# Altium schematic symbol library RLC Symbols.SchLib: 159 symbols (part 2 of 2)
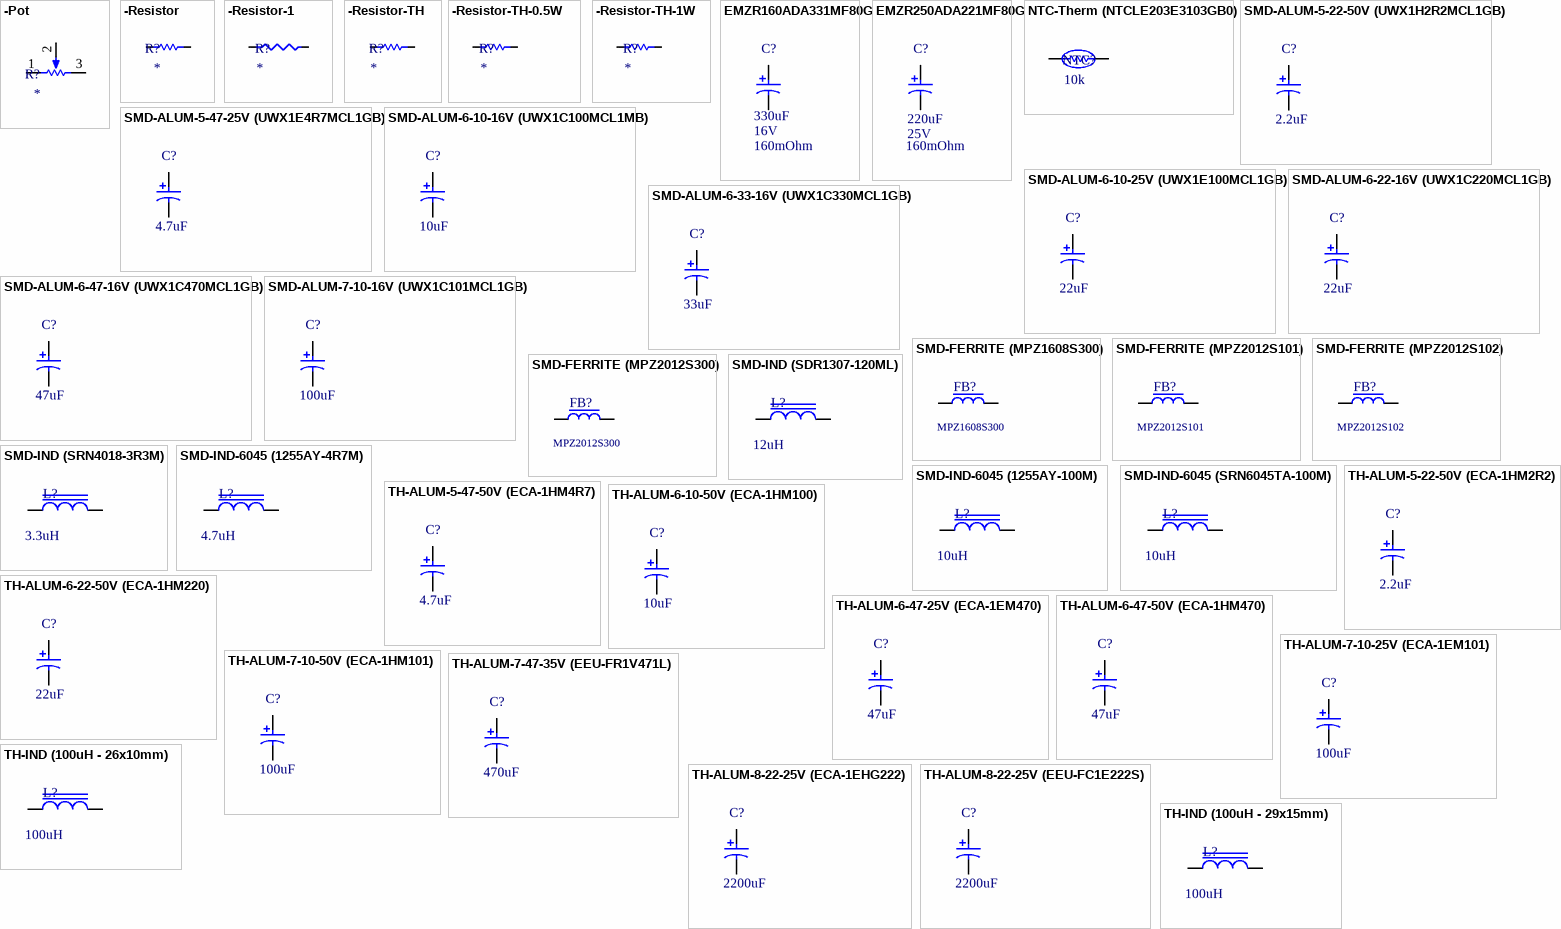
[diagram p4: symbols -Pot to TH-IND (100uH - 29x15mm)]

## SMD-ALUM-5-47-25V (UWX1E4R7MCL1GB)
designator C?, comment value 4.7uF  (hidden comment: Cap Aluminum)
CAP, ALUM, SMD, 4mm, 4.7uF, 25V, 20%; ReferencePart: UWX1E4R7MCL1GB; Voltage: 25V; ESR: *; Supplier 1: Mouser; Supplier Part Number 1: 647-UWX1E4R7MCL1
footprint SMD CAP-4X5.8MM-A1K2 (Aluminum Electrolytic Capacitor, Diameter 4mm, Height 6.1mm, Pitch 3.6mm)
pins: 1 A, 2 K

## SMD-ALUM-6-10-16V (UWX1C100MCL1MB)
designator C?, comment value 10uF  (hidden comment: Cap Aluminum)
CAP, ALUM, SMD, 4mm, 10uF, 16V, 20%; ReferencePart: UWX1C100MCL1MB; Voltage: 16V; ESR: *; Supplier 1: Mouser; Supplier Part Number 1: 647-UWX1C100MCL1MB
footprint SMD CAP-4X5.8MM-A1K2 (Aluminum Electrolytic Capacitor, Diameter 4mm, Height 6.1mm, Pitch 3.6mm)
pins: 1 A, 2 K

## SMD-ALUM-6-10-25V (UWX1E100MCL1GB)
designator C?, comment value 22uF  (hidden comment: Cap Aluminum)
CAP, ALUM, SMD, 5mm, 10uF, 25V, 20%; ReferencePart: UWX1E100MCL1GB; Voltage: 25V; ESR: *; Supplier 1: Mouser; Supplier Part Number 1: 647-UWX1E100MCL1
footprint SMD CAP-5X5.8MM-A1K2 (Aluminum Electrolytic Capacitor, Diameter 5mm, Height 6.1mm, Pitch 4.4mm)
pins: 1 A, 2 K

## SMD-ALUM-6-22-16V (UWX1C220MCL1GB)
designator C?, comment value 22uF  (hidden comment: Cap Aluminum)
CAP, ALUM, SMD, 5mm, 22uF, 16V, 20%; ReferencePart: UWX1C220MCL1GB; Voltage: 16V; ESR: *; Supplier 1: Mouser; Supplier Part Number 1: 647-UWX1C220MCL1
footprint SMD CAP-5X5.8MM-A1K2 (Aluminum Electrolytic Capacitor, Diameter 5mm, Height 6.1mm, Pitch 4.4mm)
pins: 1 A, 2 K

## SMD-ALUM-6-33-16V (UWX1C330MCL1GB)
designator C?, comment value 33uF  (hidden comment: Cap Aluminum)
CAP, ALUM, SMD, 6.3mm, 33uF, 16V, 20%; ReferencePart: UWX1C330MCL1GB; Voltage: 16V; ESR: *; Supplier 1: Mouser; Supplier Part Number 1: 647-UWX1C330MCL1
footprint SMD CAP-6.3X7.7MM-A1K2 (Aluminum Electrolytic Capacitor, Diameter 6.3mm, Height 8mm, Pitch 5.4mm)
pins: 1 A, 2 K

## SMD-ALUM-6-47-16V (UWX1C470MCL1GB)
designator C?, comment value 47uF  (hidden comment: Cap Aluminum)
CAP, ALUM, SMD, 6.3mm, 47uF, 16V, 20%; ReferencePart: UWX1C470MCL1GB; Voltage: 16V; ESR: *; Supplier 1: Mouser; Supplier Part Number 1: 647-UWX1C470MCL1
footprint SMD CAP-6.3X7.7MM-A1K2 (Aluminum Electrolytic Capacitor, Diameter 6.3mm, Height 8mm, Pitch 5.4mm)
pins: 1 A, 2 K

## SMD-ALUM-7-10-16V (UWX1C101MCL1GB)
designator C?, comment value 100uF  (hidden comment: Cap Aluminum)
CAP, ALUM, SMD, 6.3mm, 100uF, 16V, 20%; ReferencePart: UWX1C101MCL1GB; Voltage: 16V; ESR: *; Supplier 1: Mouser; Supplier Part Number 1: 647-UWX1C101MCL1
footprint SMD CAP-6.3X7.7MM-A1K2 (Aluminum Electrolytic Capacitor, Diameter 6.3mm, Height 8mm, Pitch 5.4mm)
pins: 1 A, 2 K

## SMD-FERRITE (MPZ1608S300)
designator FB?, comment value MPZ1608S300  (hidden comment: Ferrite Bead)
Ferrite Bead, 0603, 5A, 30 Ohm Impedance; Z 100 MHz: 30; Imax: 5A; Supplier 1: Mouser; Supplier Part Number 1: 810-MPZ1608S300A
footprint CAP 0603_L (Chip Capacitor, Body 1.6x0.8mm, Height 0.55mm, IPC High Density)
footprint CAP 0603_N (Chip Capacitor, Body 1.6x0.8mm, Height 0.55mm, IPC Medium Density)
pins: 1, 2

## SMD-FERRITE (MPZ2012S101)
designator FB?, comment value MPZ2012S101  (hidden comment: Ferrite Bead)
Ferrite Bead, 0805, 4A, 100 Ohm Impedance; Z 100 MHz: 100; Imax: 4A; Supplier 1: Mouser; Supplier Part Number 1: 810-MPZ2012S101A
footprint IND 0805_L (Chip Inductor, Body 2.0x1.2mm, Height 0.75mm, IPC High Density)
footprint IND 0805_N (Chip Inductor, Body 2.0x1.2mm, Height 0.75mm, IPC Medium Density)
pins: 1, 2

## SMD-FERRITE (MPZ2012S102)
designator FB?, comment value MPZ2012S102  (hidden comment: Ferrite Bead)
Ferrite Bead, 0805, 1.5A, 1k Ohm Impedance; Imax: 1.5A; Z 100 MHz: 1k; Supplier 1: Mouser; Supplier Part Number 1: 810-MPZ2012S102ATD25
footprint IND 0805_L (Chip Inductor, Body 2.0x1.2mm, Height 0.75mm, IPC High Density)
footprint IND 0805_N (Chip Inductor, Body 2.0x1.2mm, Height 0.75mm, IPC Medium Density)
pins: 1, 2

## SMD-FERRITE (MPZ2012S300)
designator FB?, comment value MPZ2012S300  (hidden comment: Ferrite Bead)
Ferrite Bead, 0805, 6A, 30 Ohm Impedance; Imax: 5A; Z 100 MHz: 30; Supplier 1: Mouser; Supplier Part Number 1: 810-MPZ1608S300A
footprint CAP 0805_L (Chip Capacitor, Body 2.0x1.2mm, Height 0.75mm, IPC High Density)
footprint CAP 0805_N (Chip Capacitor, Body 2.0x1.2mm, Height 0.75mm, IPC Medium Density)
pins: 1, 2

## SMD-IND (SDR1307-120ML)
designator L?, comment value 12uH  (hidden comment: Inductor)
IND, SMD Power, 13x13x7mm, 12uH, 4.8A, 20%; Isat: 8A; Irms: 4.8A; Supplier 1: Mouser; Supplier Part Number 1: 652-SDR1307-120ML
footprint IND 130130X73N (SMD Wire Wound Inductor, 2-Leads, Body 13.00x13.00mm, IPC Medium Density)
pins: 1, 2

## SMD-IND (SRN4018-3R3M)
designator L?, comment value 3.3uH  (hidden comment: Inductor)
IND, SMD Power, 4018, 3.3uH, 2.2A, 20%; Isat: 2.3A; Irms: 2.2A; Supplier 1: Digi-Key; Supplier Part Number 1: SRN4018-3R3MDKR-ND
footprint IND 4018 (SMD Power Inductor, 2-Leads, Body 4.0x4.0mm)
pins: 1, 2

## SMD-IND-6045 (1255AY-4R7M)
designator L?, comment value 4.7uH  (hidden comment: Inductor)
IND, SMD Power, 6045, 4.7uH, 4.5A, 20%; Isat: 6.0A; Irms: 4.5A; Supplier 1: Mouser; Supplier Part Number 1: 81-1255AY-4R7MP3
footprint IND 6045 (SMD Power Inductor, 2-Leads, Body 6.0x6.0mm)
pins: 1, 2

## SMD-IND-6045 (1255AY-100M)
designator L?, comment value 10uH  (hidden comment: Inductor)
IND, SMD Power, 6045, 10uH, 3.1A, 20%; Isat: 4.1A; Irms: 3.1A; Supplier 1: Mouser; Supplier Part Number 1: 81-1255AY-100MP3
footprint IND 6045 (SMD Power Inductor, 2-Leads, Body 6.0x6.0mm)
pins: 1, 2

## SMD-IND-6045 (SRN6045TA-100M)
designator L?, comment value 10uH  (hidden comment: Inductor)
IND, SMD Power, 6045, 10uH, 3.2A, 20%; Isat: 4.6A; Irms: 3.2A; Supplier 1: Digi-Key; Supplier Part Number 1: SRN6045TA-100MCT-ND
footprint IND 6045 (SMD Power Inductor, 2-Leads, Body 6.0x6.0mm)
pins: 1, 2

## TH-ALUM-5-22-50V (ECA-1HM2R2)
designator C?, comment value 2.2uF  (hidden comment: Cap Aluminum)
CAP, ALUM, TH, 5x11mm, 2.2uF, 50V, 20%, Pitch 2mm; ReferencePart: ECA-1HM2R2; Voltage: 50V; ESR: *
footprint TH CAP-5X11MM-A1K2 (Aluminum Electrolytic Capacitor, Diameter 5mm, Height 11mm, Pitch 2mm)
pins: 1 A, 2 K

## TH-ALUM-5-47-50V (ECA-1HM4R7)
designator C?, comment value 4.7uF  (hidden comment: Cap Aluminum)
CAP, ALUM, TH, 5x11mm, 4.7uF, 50V, 20%, Pitch 2mm; ReferencePart: ECA-1HM4R7; Voltage: 50V; ESR: *
footprint TH CAP-5X11MM-A1K2 (Aluminum Electrolytic Capacitor, Diameter 5mm, Height 11mm, Pitch 2mm)
pins: 1 A, 2 K

## TH-ALUM-6-10-50V (ECA-1HM100)
designator C?, comment value 10uF  (hidden comment: Cap Aluminum)
CAP, ALUM, TH, 5x11mm, 10uF, 50V, 20%,, Pitch 2mm; ReferencePart: ECA-1HM100; Voltage: 50V; ESR: *; Supplier 1: Mouser; Supplier Part Number 1: 667-ECA-1HM100
footprint TH CAP-5X11MM-A1K2 (Aluminum Electrolytic Capacitor, Diameter 5mm, Height 11mm, Pitch 2mm)
pins: 1 A, 2 K

## TH-ALUM-6-22-50V (ECA-1HM220)
designator C?, comment value 22uF  (hidden comment: Cap Aluminum)
CAP, ALUM, TH, 5x11mm, 22uF, 50V, 20%, Pitch 2mm; ReferencePart: ECA-1HM220; Voltage: 50V; ESR: *
footprint TH CAP-5X11MM-A1K2 (Aluminum Electrolytic Capacitor, Diameter 5mm, Height 11mm, Pitch 2mm)
pins: 1 A, 2 K

## TH-ALUM-6-47-25V (ECA-1EM470)
designator C?, comment value 47uF  (hidden comment: Cap Aluminum)
CAP, ALUM, TH, 5x11mm, 47uF, 25V, 20%, , Pitch 2mm; ReferencePart: ECA-1EM470; Voltage: 25V; ESR: *
footprint TH CAP-5X11MM-A1K2 (Aluminum Electrolytic Capacitor, Diameter 5mm, Height 11mm, Pitch 2mm)
pins: 1 A, 2 K

## TH-ALUM-6-47-50V (ECA-1HM470)
designator C?, comment value 47uF  (hidden comment: Cap Aluminum)
CAP, ALUM, TH, 6.3x11mm, 47uF, 50V, 20%, Pitch 2.5mm; ReferencePart: ECA-1HM470; Voltage: 50V; ESR: *
footprint TH CAP-6.3X11MM-A1K2 (Aluminum Electrolytic Capacitor, Diameter 6.3mm, Height 11mm, Pitch 2.5mm)
pins: 1 A, 2 K

## TH-ALUM-7-10-25V (ECA-1EM101)
designator C?, comment value 100uF  (hidden comment: Cap Aluminum)
CAP, ALUM, TH, 6.3x11mm, 100uF, 25V, 20%, Pitch 2.5mm; ReferencePart: ECA-1EM101; Voltage: 25V; ESR: *; Supplier 1: Mouser; Supplier Part Number 1: 667-ECA-1EM101
footprint TH CAP-6.3X11MM-A1K2 (Aluminum Electrolytic Capacitor, Diameter 6.3mm, Height 11mm, Pitch 2.5mm)
pins: 1 A, 2 K

## TH-ALUM-7-10-50V (ECA-1HM101)
designator C?, comment value 100uF  (hidden comment: Cap Aluminum)
CAP, ALUM, TH, 8x11.5mm, 100uF, 50V, 20%, Pitch 3.5mm; ReferencePart: ECA-1HM101; Voltage: 50V; ESR: *; Supplier 1: Mouser; Supplier Part Number 1: 667-ECA-1HM101
footprint TH CAP-8X11.5MM-A1K2 (Aluminum Electrolytic Capacitor, Diameter 8mm, Height 11.5mm, Pitch 3.5mm)
pins: 1 A, 2 K

## TH-ALUM-7-47-35V (EEU-FR1V471L)
designator C?, comment value 470uF  (hidden comment: Cap Aluminum)
CAP, ALUM, TH, 18x20mm, 2200uF, 25V, 20%, Pitch 7.5mm; ReferencePart: EEU-FR1V471L; Voltage: 35V; ESR: *; Supplier 1: Mouser; Supplier Part Number 1: 667-EEU-FR1V471L
footprint TH CAP-8X20MM-A1K2 (Aluminum Electrolytic Capacitor, Diameter 8mm, Height 20mm, Pitch 3.5mm)
pins: 1 A, 2 K

## TH-ALUM-8-22-25V (ECA-1EHG222)
designator C?, comment value 2200uF  (hidden comment: Cap Aluminum)
CAP, ALUM, TH, 12.5x25mm, 2200uF, 25V, 20%, Pitch 5.0mm; ReferencePart: ECA-1EHG222; Voltage: 25V; ESR: *; Supplier 1: Mouser; Supplier Part Number 1: 667-ECA-1EHG222
footprint TH CAP-12.5X25MM-A1K2 (Aluminum Electrolytic Capacitor, Diameter 12.5mm, Height 25mm, Pitch 5.0mm)
pins: 1 A, 2 K

## TH-ALUM-8-22-25V (EEU-FC1E222S)
designator C?, comment value 2200uF  (hidden comment: Cap Aluminum)
CAP, ALUM, TH, 18x20mm, 2200uF, 25V, 20%, Pitch 7.5mm; ReferencePart: EEU-FC1E222S; Voltage: 25V; ESR: *; Supplier 1: Mouser; Supplier Part Number 1: 667-EEU-FC1E222S
footprint TH CAP-18X20MM-A1K2 (Aluminum Electrolytic Capacitor, Diameter 18mm, Height 20mm, Pitch 7.5mm)
pins: 1 A, 2 K

## TH-IND (100uH - 26x10mm)
designator L?, comment value 100uH  (hidden comment: Inductor)
IND, TH, 26x10mm; ReferencePart: ZJ42508TC
footprint TH IND 26x10mm (Inductor, ID 15.8mm, OD 26.29mm, Height 10mm, 16AWG)
footprint TH IND 26x10mm - 2 (Inductor, ID 15.8mm, OD 26.29mm, Height 10mm, 16AWG)
pins: 1, 2

## TH-IND (100uH - 29x15mm)
designator L?, comment value 100uH  (hidden comment: Inductor)
IND, TH, 29x15mm
footprint TH IND 29x15mm (Inductor, ID 18mm, OD 29mm, Height 15mm, 2x16AWG)
pins: 1, 2